# EAGLE library part FFC10POS (library CC2530_PCB_TL)
FFC Connector 10POS
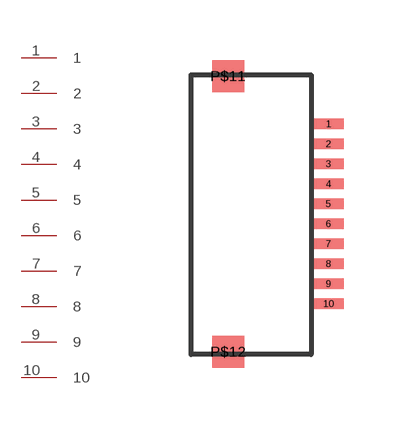
[diagram p0: symbol with the pads of FFC10POS; footprint FFC10POS]

Designator prefix -

## FFC10POS  [FFC10POS]
1  1
2  2
3  3
4  4
5  5
6  6
7  7
8  8
9  9
10  10

## Footprint FFC10POS (pad centres in mm)
FFC Connector 10POS
smd 0.762 x 0.254: 1 -0.015,2.271; 2 -0.015,1.771; 3 -0.015,1.271; 4 -0.015,0.771; 5 -0.015,0.271; 6 -0.015,-0.229; 7 -0.015,-0.729; 8 -0.015,-1.229; 9 -0.015,-1.729; 10 -0.015,-2.229
smd 0.8 x 0.8: P$11 -2.52,3.47; P$12 -2.52,-3.43